# Altium footprint library Optoelectronics.PcbLib: 4 footprints
Each footprint in its own frame and in the unit in brackets; x right, y up, seen from the top. Pads: shape width x height; smd on the part's side, far side on the other; paste and mask are expansions set on the pad; w line width, h text height; cw(c..) or ccw(c..) is an arc to the next point about the centre after c.
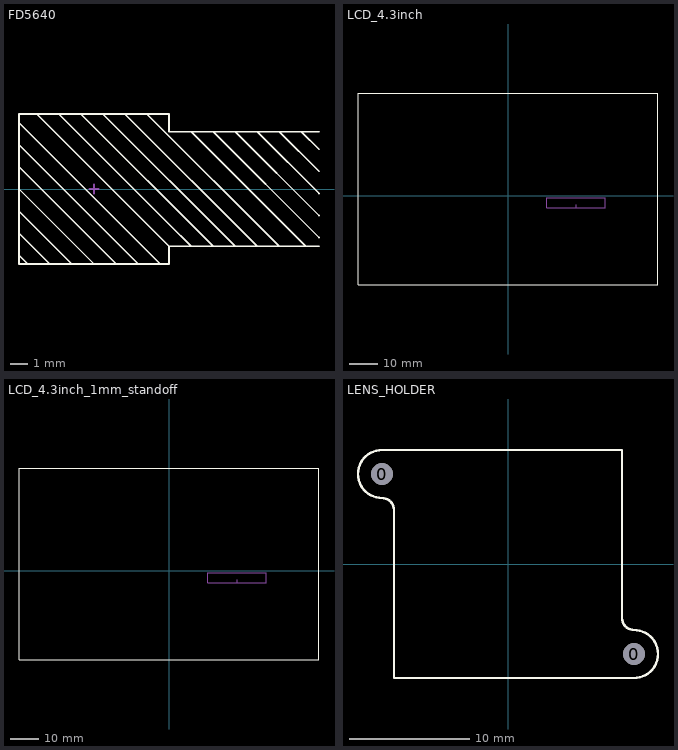
[diagram p0: the footprints below, top view; thin cyan lines are the x and y axes]

## FD5640 [mm]
Top Overlay:
  lines w0.1: -21,-3.75 -20.5,-4.25 ; -21,-2.5 -19.25,-4.25 ; -21,-1.25 -18,-4.25 ; -21,0 -16.75,-4.25 ; -21,1.25 -15.5,-4.25 ; -21,2.5 -14.25,-4.25 ; -21,3.75 -13,-4.25 ; -20,4.25 -12.5,-3.25 ; -18.75,4.25 -12.5,-2 -11.25,-3.25 ; -17.5,4.25 -10,-3.25 ; -16.25,4.25 -8.75,-3.25 ; -15,4.25 -7.5,-3.25 ; -13.75,4.25 -6.25,-3.25 ; -11.25,3.25 -4.75,-3.25 ; -10,3.25 -4,-2.75 ; -8.75,3.25 -4,-1.5 ; -7.5,3.25 -4,-0.25 ; -6.25,3.25 -4,1 ; -5,3.25 -4,2.25 ; -4,-3.25 -12.5,-3.25 ; -4,3.25 -12.5,3.25 -12.5,4.25 -21,4.25 -21,-4.25 -12.5,-4.25 -12.5,-3.25
Mechanical 1:
  lines w0.1: -17,0 -16.5,0 ; -16.75,-0.25 -16.75,0.25
3D body "FD5640.SLDPRT": height 5.28, standoff 0.01, extent -21,-6.25 0,6.25

## LCD_4.3inch [mm] "4.3 LCD"
Top Overlay:
  lines w0.1: -52.75,-31.25 52.75,-31.25 52.75,36 -52.75,36 -52.75,-31.25
Mechanical 1:
  lines w0.1: 23.95,-3.25 23.95,-4.197 ; 23.95,-4.197 23.95,-4.197 ; 13.7,-4.197 34.2,-4.197 34.2,-1.7 34.2,-0.7 13.7,-0.7 13.7,-1.7 13.7,-4.197
3D body "AT043TN24_1mm.STEP": height 2.91, standoff -2.73, extent -52.75,-31.15 52.75,36.14

## LCD_4.3inch_1mm_standoff [mm] "4.3 LCD"
Top Overlay:
  lines w0.1: -52.75,-31.25 52.75,-31.25 52.75,36 -52.75,36 -52.75,-31.25
Mechanical 1:
  lines w0.1: 23.95,-3.25 23.95,-4.197 ; 23.95,-4.197 23.95,-4.197 ; 13.7,-4.197 34.2,-4.197 34.2,-1.7 34.2,-0.7 13.7,-0.7 13.7,-1.7 13.7,-4.197
3D body "AT043TN24_1mm.STEP": height 3.9, standoff -2.75, extent -52.75,-31.15 52.75,36.14

## LENS_HOLDER [mm]
pads (2):
  round 1.8 hole 1.8 unplated: 0(-10.5,7.5) 0(10.5,-7.5)
Top Overlay:
  lines w0.2: -10.5,5.5 cw(c-10.5,4.5) -9.5,4.5 -9.5,-9.5 10.5,-9.5 ccw(c10.5,-7.5) 10.5,-5.5 cw(c10.5,-4.5) 9.5,-4.5 9.5,9.5 -10.5,9.5 ccw(c-10.5,7.5) -10.5,5.5
3D body "CLCC48_LNSHLDR.STEP": height 6.52, standoff 0.02, extent -12.5,-9.5 12.5,9.5